# Altium footprint library PLCC-2.PcbLib: 1 footprints
Each footprint in its own frame and in the unit in brackets; x right, y up, seen from the top. Pads: shape width x height; smd on the part's side, far side on the other; paste and mask are expansions set on the pad; w line width, h text height; cw(c..) or ccw(c..) is an arc to the next point about the centre after c.
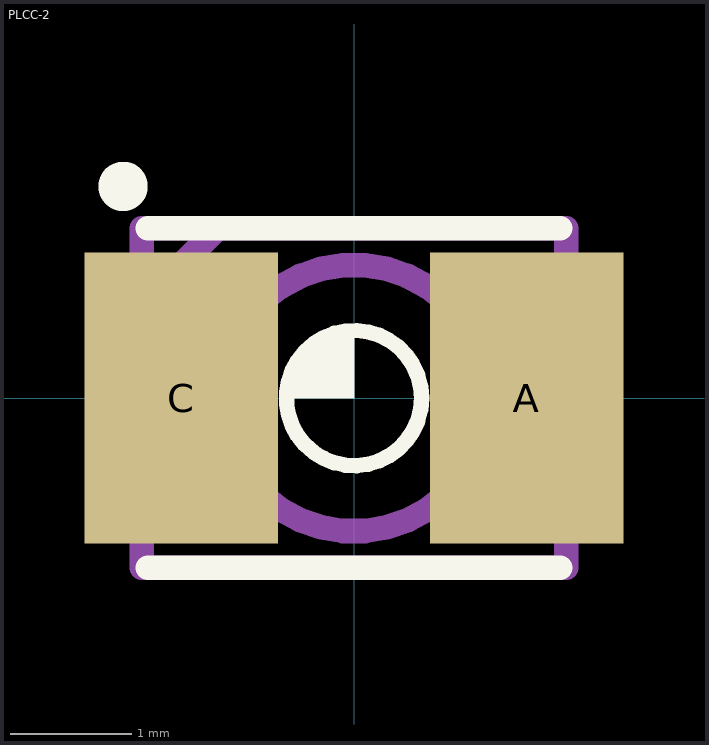
[diagram p0: the footprint, top view; thin cyan lines are the x and y axes]

## PLCC-2 [mm]
pads (2):
  rect 1.6x2.4 smd: A(1.425,0) C(-1.425,0)
Top Overlay:
  circle w0.305: c-1.905,1.746 r0.051
  circle w0.127: c0,0 r0.558
  region: 0,0 0,0.559 -0.015,0.559 -0.044,0.557 -0.073,0.554 -0.102,0.55 -0.13,0.544 -0.159,0.536 -0.187,0.527 -0.214,0.516 -0.241,0.505 -0.267,0.491 -0.292,0.477 -0.317,0.461 -0.34,0.443 -0.363,0.425 -0.385,0.405 -0.405,0.385 -0.425,0.363 -0.443,0.34 -0.461,0.317 -0.477,0.292 -0.491,0.267 -0.505,0.241 -0.516,0.214 -0.527,0.187 -0.536,0.159 -0.544,0.13 -0.55,0.102 -0.554,0.073 -0.557,0.044 -0.559,0.015 -0.559,0
  lines w0.203: -1.7,-1.4 1.7,-1.4 ; -1.7,1.4 1.7,1.4
Mechanical 4:
  circle w0.203: c0,0 r1.1
  circle w0.203: c0,0 r1.1
  lines w0.203: -1.75,-1.4 1.75,-1.4 ; -1.75,-1.4 -1.75,1.4 ; -1.75,-1.4 1.75,-1.4 ; -1.75,-1.4 -1.75,1.4 ; -1.75,1.4 1.75,1.4 ; -1.75,1.4 1.75,1.4 ; 1.75,-1.4 1.75,1.4 ; 1.75,-1.4 1.75,1.4 ; -1.716,0.81 -1.166,1.36 -1.716,0.81